# Altium schematic symbol library MCP1640.SchLib: 1 symbol
Pins are listed as number, name and electrical type; pins without a type are passive.

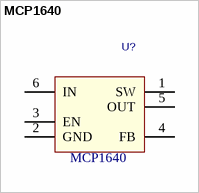
[diagram p0: symbol MCP1640]

## MCP1640
designator U?
Value: MCP1640
footprint SOT23-6
pins: 1 SW, 2 GND (power), 3 EN, 4 FB, 5 OUT, 6 IN